# Altium integrated library Multilayer Radial Ceramic PTH Capacitors.IntLib: 2 symbols
Pins are listed as number, name and electrical type; pins without a type are passive.

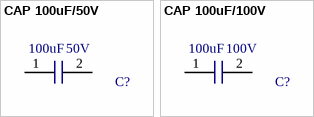
[diagram p0: symbols CAP 100uF/50V to CAP 100uF/100V]

## CAP 100uF/50V
designator C?  Capacitance: 100uF  Voltage: 50V  (hidden comment: CAP 100uF/50V)
100µF ±20% 50V Ceramic Capacitor X7R Radial; Manufacturer 1: United Chemi-Con; Manufacturer 1 PN: KTD500B107M90A0B00; Mouser PN: 661-KTD500B107M90A0B; Digikey PN: 565-4665-ND; ComponentLink1Description: Datasheet; ComponentLink1URL: http://www.chemi-con.co.jp/e/catalog/pdf/ce-e/ce-sepa-e/ce-ntd-e-2018.pdf
footprint CAP 100uF/50V (100µF ±20% 50V Ceramic Capacitor X7R Radial)
pins: 1, 2

## CAP 100uF/100V
designator C?  Capacitance: 100uF  Voltage: 100V  (hidden comment: CAP 100uF/100V)
100µF ±20% 100V Ceramic Capacitor X7R Radial; Manufacturer 1: United Chemi-Con; Manufacturer 1 PN: KTD101B107M99A0B00; Mouser PN: 661-KTD101B107M99A0B; Digikey PN: 565-4650-ND; ComponentLink1Description: Datasheet; ComponentLink1URL: http://www.chemi-con.co.jp/e/catalog/pdf/ce-e/ce-sepa-e/ce-ntd-e-2018.pdf
footprint CAP 100uF/100V (100µF ±20% 100V Ceramic Capacitor X7R Radial)
pins: 1, 2